# EAGLE library part NRF9E5 (library nrf9e5)
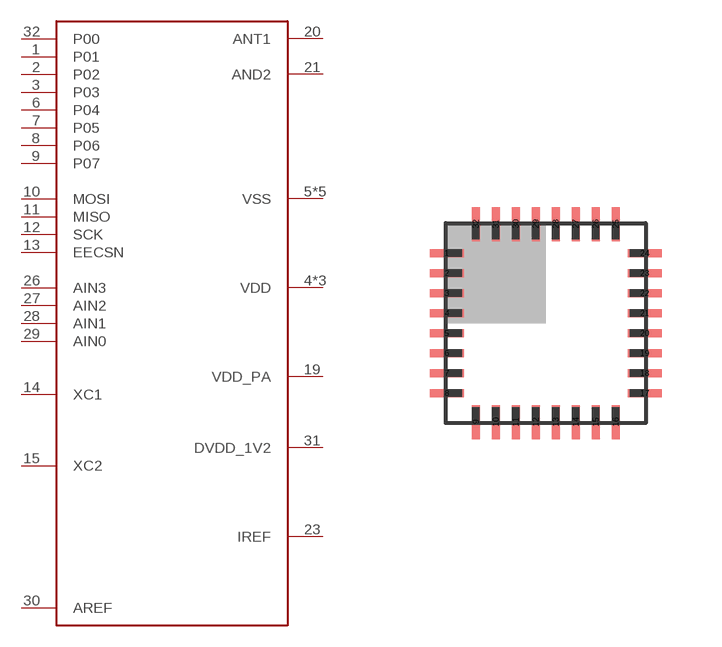
[diagram p0: symbol with the pads of 32QFN-THIN; footprint 32QFN-THIN]

Designator prefix -

## NRF9E5  [32QFN-THIN]
1  P01
2  P02
3  P03
4  VDD
5  VSS
6  P04
7  P05
8  P06
9  P07
10  MOSI
11  MISO
12  SCK
13  EECSN
14  XC1
15  XC2
16  VSS
17  VDD
18  VSS
19  VDD_PA
20  ANT1
21  AND2
22  VSS
23  IREF
24  VSS
25  VDD
26  AIN3
27  AIN2
28  AIN1
29  AIN0
30  AREF
31  DVDD_1V2
32  P00

## Footprint 32QFN-THIN (pad centres in mm)
smd 0.85 x 0.2: 1 -2.475,1.75; 2 -2.475,1.25; 3 -2.475,0.75; 4 -2.475,0.25; 5 -2.475,-0.25; 6 -2.475,-0.75; 7 -2.475,-1.25; 8 -2.475,-1.75; 17 2.475,-1.75; 18 2.475,-1.25; 19 2.475,-0.75; 20 2.475,-0.25; 21 2.475,0.25; 22 2.475,0.75; 23 2.475,1.25; 24 2.475,1.75
smd 0.2 x 0.85: 9 -1.75,-2.475; 10 -1.25,-2.475; 11 -0.75,-2.475; 12 -0.25,-2.475; 13 0.25,-2.475; 14 0.75,-2.475; 15 1.25,-2.475; 16 1.75,-2.475; 25 1.75,2.475; 26 1.25,2.475; 27 0.75,2.475; 28 0.25,2.475; 29 -0.25,2.475; 30 -0.75,2.475; 31 -1.25,2.475; 32 -1.75,2.475